# Altium schematic symbol library SnapEDAsch.SchLib: 1 symbol
Pins are listed as number, name and electrical type; pins without a type are passive.

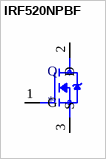
[diagram p0: symbol IRF520NPBF]

## IRF520NPBF
designator Q
N-Channel 100V 9.7A _Tc_ 48W _Tc_ Through Hole TO-220AB; MP: IRF520NPBF; MF: Infineon Technologies; Package: TO-220AB International Rectifier; Price: None; Availability: Unavailable; Value: *; SnapEDA_Link: https://www.snapeda.com/parts/IRF520NPBF/Infineon%20Technologies/view-part/106191/?ref=snap
footprint TO-220-3
pins: 1 G, 2 D, 3 S